# Altium footprint library EmbSD Lib 0v1.PcbLib: 19 footprints (part 2 of 2)
Each footprint in its own frame and in the unit in brackets; x right, y up, seen from the top. Pads: shape width x height; smd on the part's side, far side on the other; paste and mask are expansions set on the pad; w line width, h text height; cw(c..) or ccw(c..) is an arc to the next point about the centre after c.
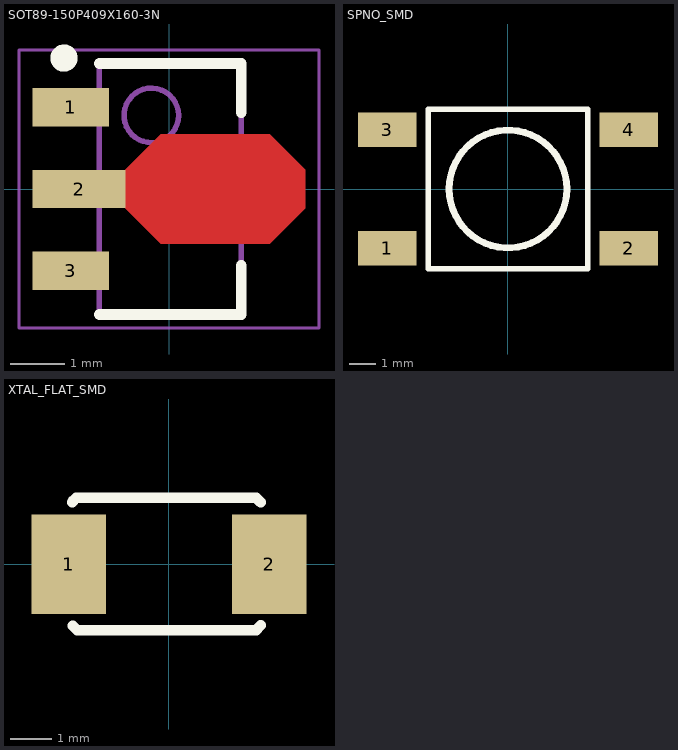
[diagram p1: the footprints below, top view; thin cyan lines are the x and y axes]

## SOT89-150P409X160-3N [mm] "SOT89, 3-Leads, Body 4.50x2.50mm, Pitch 1.50mm, Lead Span 4.1mm, IPC Medium Density"
height 1.6
pads (3):
  rect 1.4x0.7 smd: 1(-1.8,1.5) 3(-1.8,-1.5)
  rect 1.7x0.7 smd: 2(-1.65,0)
Top Layer:
  region: -0.8,0.35 -0.15,1 1.85,1 2.5,0.35 2.5,-0.35 1.85,-1 -0.15,-1 -0.8,-0.35
Top Overlay:
  circle w0.25: c-1.925,2.4 r0.125
  lines w0.2: -1.275,-2.3 1.325,-2.3 1.325,-1.4 ; -1.275,2.3 1.325,2.3 1.325,1.4
Mechanical 13:
  circle w0.1: c-0.325,1.35 r0.5
  lines w0.1: -1.275,-2.3 -1.275,2.3 1.325,2.3 1.325,-2.3 -1.275,-2.3
Mechanical 15:
  lines w0.05: -2.75,-2.55 -2.75,2.55 2.75,2.55 2.75,-2.55 -2.75,-2.55
  lines w0.1: -0.475,0 0.525,0 ; 0.025,-0.5 0.025,0.5
3D body "SOT89-150P409X160-3N.step": height 1.6, standoff 0, extent -2.2,-2.3 1.9,2.3

## SPNO_SMD [mm] "SP NO SMD Tactile switch"
height 12
pads (4):
  rect 2.2x1.3 smd: 1(-4.55,-2.225) 2(4.55,-2.225) 3(-4.55,2.225) 4(4.55,2.225)
Top Overlay:
  circle w0.254: c0,0 r2.218
  lines w0.2: -3,-3 3,-3 3,3 -3,3 -3,-3
3D body "b3s-1000.stp": height 4.32, standoff 0.02, extent -4.25,-3.3 4.25,3.3

## XTAL_FLAT_SMD [mm]
height 1.35
pads (2):
  rect 1.8x2.4 smd: 1(-2.412,0) 2(2.413,0)
Top Overlay:
  lines w0.254: -2.335,1.498 -2.232,1.6 2.097,1.6 2.205,1.492 ; -2.319,-1.481 -2.211,-1.589 2.097,-1.589 2.212,-1.474
3D body "User Library-CRYSTALSMD5X32.step": height 1.02, standoff 0.02, extent -2.576,-1.6 2.424,1.6